# Altium footprint library 05E_Relay.PcbLib: 3 footprints
Each footprint in its own frame and in the unit in brackets; x right, y up, seen from the top. Pads: shape width x height; smd on the part's side, far side on the other; paste and mask are expansions set on the pad; w line width, h text height; cw(c..) or ccw(c..) is an arc to the next point about the centre after c.
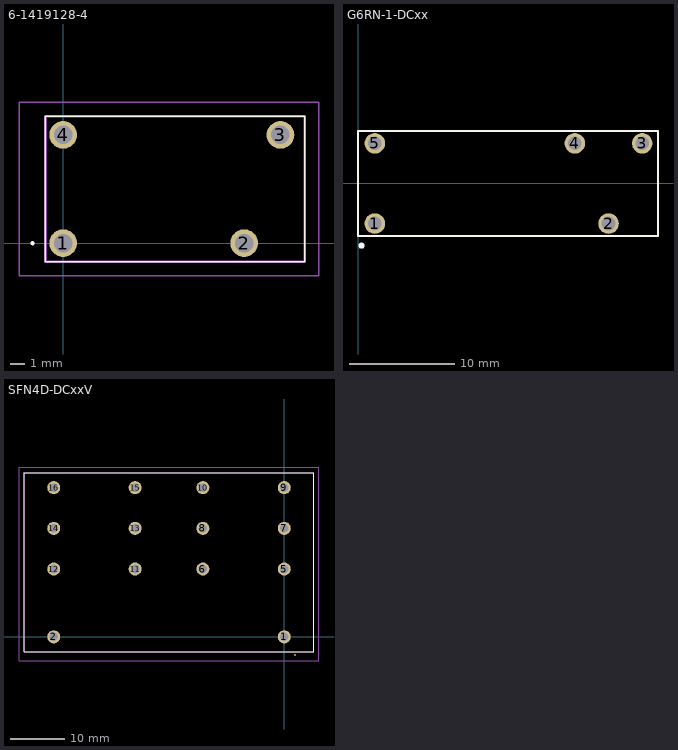
[diagram p0: the footprints below, top view; thin cyan lines are the x and y axes]

## 6-1419128-4 [mm]
pads (4):
  round 1.95 hole 1.3: 1(0,0) 2(12.7,0) 3(15.24,7.6) 4(0,7.6)
Top Overlay:
  lines w0.1: -1.25,-1.3 16.95,-1.3 16.95,8.9 -1.25,8.9 -1.25,-1.3
  lines w0.2: -2.2,0 cw(c-2.15,0) -2.1,0 ; -2.2,0 ccw(c-2.15,0) -2.1,0 ; -2.2,0 cw(c-2.15,0) -2.1,0
Top 3D Body:
  lines w0.2: -1.25,-1.3 16.95,-1.3 16.95,8.9 -1.25,8.9 -1.25,-1.3
Top Courtyard:
  lines w0.1: -3.1,-2.3 17.95,-2.3 17.95,9.9 -3.1,9.9 -3.1,-2.3
3D body "6-1419128-4.stp": height 14.85, standoff -3.85, extent -1.21,-1.3 16.99,8.9

## G6RN-1-DCxx [mm]
pads (5):
  round 1.95 hole 1.3: 1(1.6,-3.81) 2(23.8,-3.81) 3(27,3.81) 4(20.6,3.81) 5(1.6,3.81)
Top Overlay:
  circle w0.3: c0.333,-5.91 r0.142
  lines w0.2: 0,-5 0,5 28.5,5 28.5,-5 0.1,-5
Top Courtyard:
  lines w0.2: 0,-5 28.5,-5 28.5,5 0,5 0,-5

## SFN4D-DCxxV [mm]
pads (14):
  round 2.4 hole 1.6: 1(0,0) 2(-42.5,0) 5(0,12.5) 6(-15,12.5) 7(0,20) 8(-15,20) 9(0,27.5) 10(-15,27.5) 11(-27.5,12.5) 12(-42.5,12.5) 13(-27.5,20) 14(-42.5,20) 15(-27.5,27.5) 16(-42.5,27.5)
Top Overlay:
  lines w0.1: -47.9,-2.75 5.4,-2.75 5.4,30.25 -47.9,30.25 -47.9,-2.75
  lines w0.2: 1.95,-3.35 cw(c2,-3.35) 2.05,-3.35 cw(c2,-3.35) 1.95,-3.35
Top 3D Body:
  lines w0.2: -47.9,-2.75 5.4,-2.75 5.4,30.25 -47.9,30.25 -47.9,-2.75
Top Courtyard:
  lines w0.1: -48.9,-4.4 6.4,-4.4 6.4,31.25 -48.9,31.25 -48.9,-4.4
3D body "SFN4D-DC12V.stp": height 14.9, standoff -5, extent -47.9,-2.75 5.4,30.25